# Altium footprint library TSSOP28-SPE-P18F25K80.PcbLib: 1 footprints
Each footprint in its own frame and in the unit in brackets; x right, y up, seen from the top. Pads: shape width x height; smd on the part's side, far side on the other; paste and mask are expansions set on the pad; w line width, h text height; cw(c..) or ccw(c..) is an arc to the next point about the centre after c.
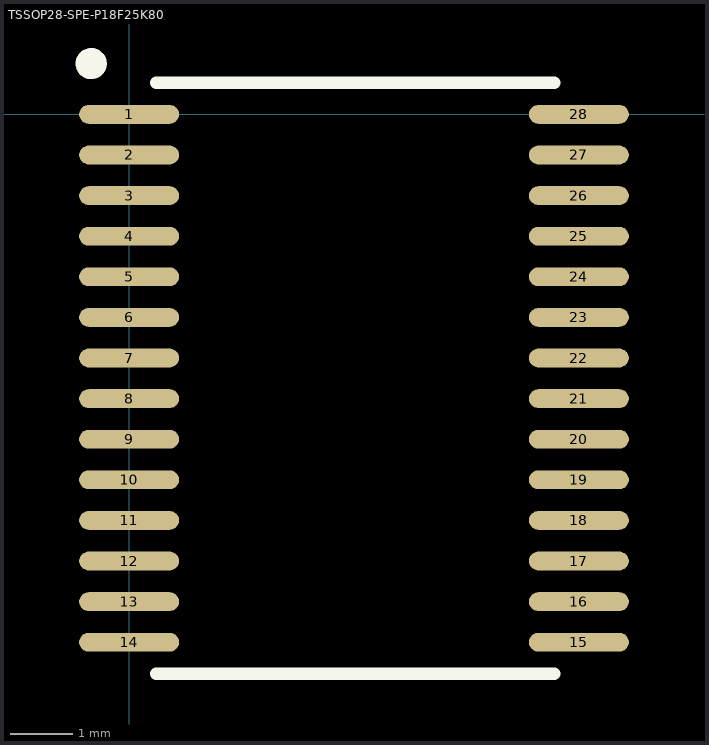
[diagram p0: the footprint, top view; thin cyan lines are the x and y axes]

## TSSOP28-SPE-P18F25K80 [mm]
height 2
pads (28):
  oval 1.6x0.3 smd: 1(0,0) 2(0,-0.65) 3(0,-1.3) 4(0,-1.95) 5(0,-2.6) 6(0,-3.25) 7(0,-3.9) 8(0,-4.55) 9(0,-5.2) 10(0,-5.85) 11(0,-6.5) 12(0,-7.15) 13(0,-7.8) 14(0,-8.45) 15(7.2,-8.45) 16(7.2,-7.8) 17(7.2,-7.15) 18(7.2,-6.5) 19(7.2,-5.85) 20(7.2,-5.2) 21(7.2,-4.55) 22(7.2,-3.9) 23(7.2,-3.25) 24(7.2,-2.6) 25(7.2,-1.95) 26(7.2,-1.3) 27(7.2,-0.65) 28(7.2,0)
Top Overlay:
  circle w0.25: c-0.608,0.813 r0.125
  lines w0.2: 0.432,-8.958 6.807,-8.958 ; 0.432,0.508 6.807,0.508
3D body: height 1.92, standoff -0.03, extent -0.525,-9.458 7.7,1.042